# Altium schematic symbol library DIP40_ZIF.SchLib: 1 symbol
Pins are listed as number, name and electrical type; pins without a type are passive.

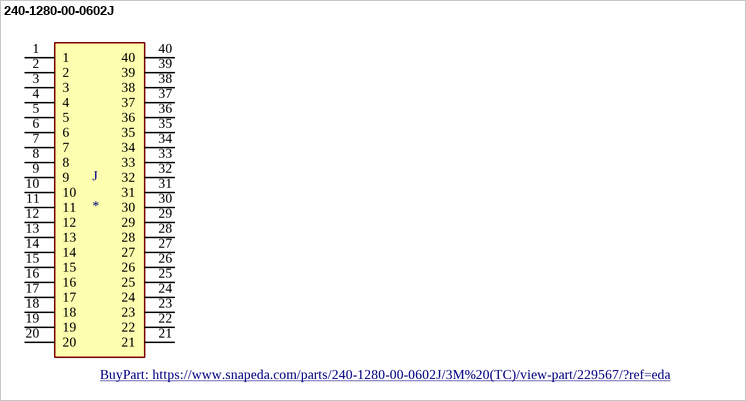
[diagram p0: symbol 240-1280-00-0602J]

## 240-1280-00-0602J
designator J
40 (2 x 20) Pos DIP, ZIF (ZIP), 0.6 (15.24mm) Row Spacing Socket Gold Connector; MP: 240-1280-00-0602J; MF: 3M; Value: *; Availability: Bad; DigiKey-Purchase-URL: https://snapeda.com/shop?store=DigiKey&id=229567; SnapEDA_Link: https://www.snapeda.com/parts/240-1280-00-0602J/3M%20(TC)/view-part/229567/?ref=snap; Price: None; Mouser-Purchase-URL: https://snapeda.com/shop?store=Mouser&id=229567; Package: None; BuyPart: https://www.snapeda.com/parts/240-1280-00-0602J/3M%20(TC)/view-part/229567/?ref=eda
footprint 3M_240-1280-00-0602J
pins: 1, 2, 3, 4, 5, 6, 7, 8, 9, 10, 11, 12, 13, 14, 15, 16, 17, 18, 19, 20, 21, 22, 23, 24, 25, 26, 27, 28, 29, 30, 31, 32, 33, 34, 35, 36, 37, 38, 39, 40